# Altium footprint library MEGA.PcbLib: 237 footprints (part 5 of 15)
Each footprint in its own frame and in the unit in brackets; x right, y up, seen from the top. Pads: shape width x height; smd on the part's side, far side on the other; paste and mask are expansions set on the pad; w line width, h text height; cw(c..) or ccw(c..) is an arc to the next point about the centre after c.
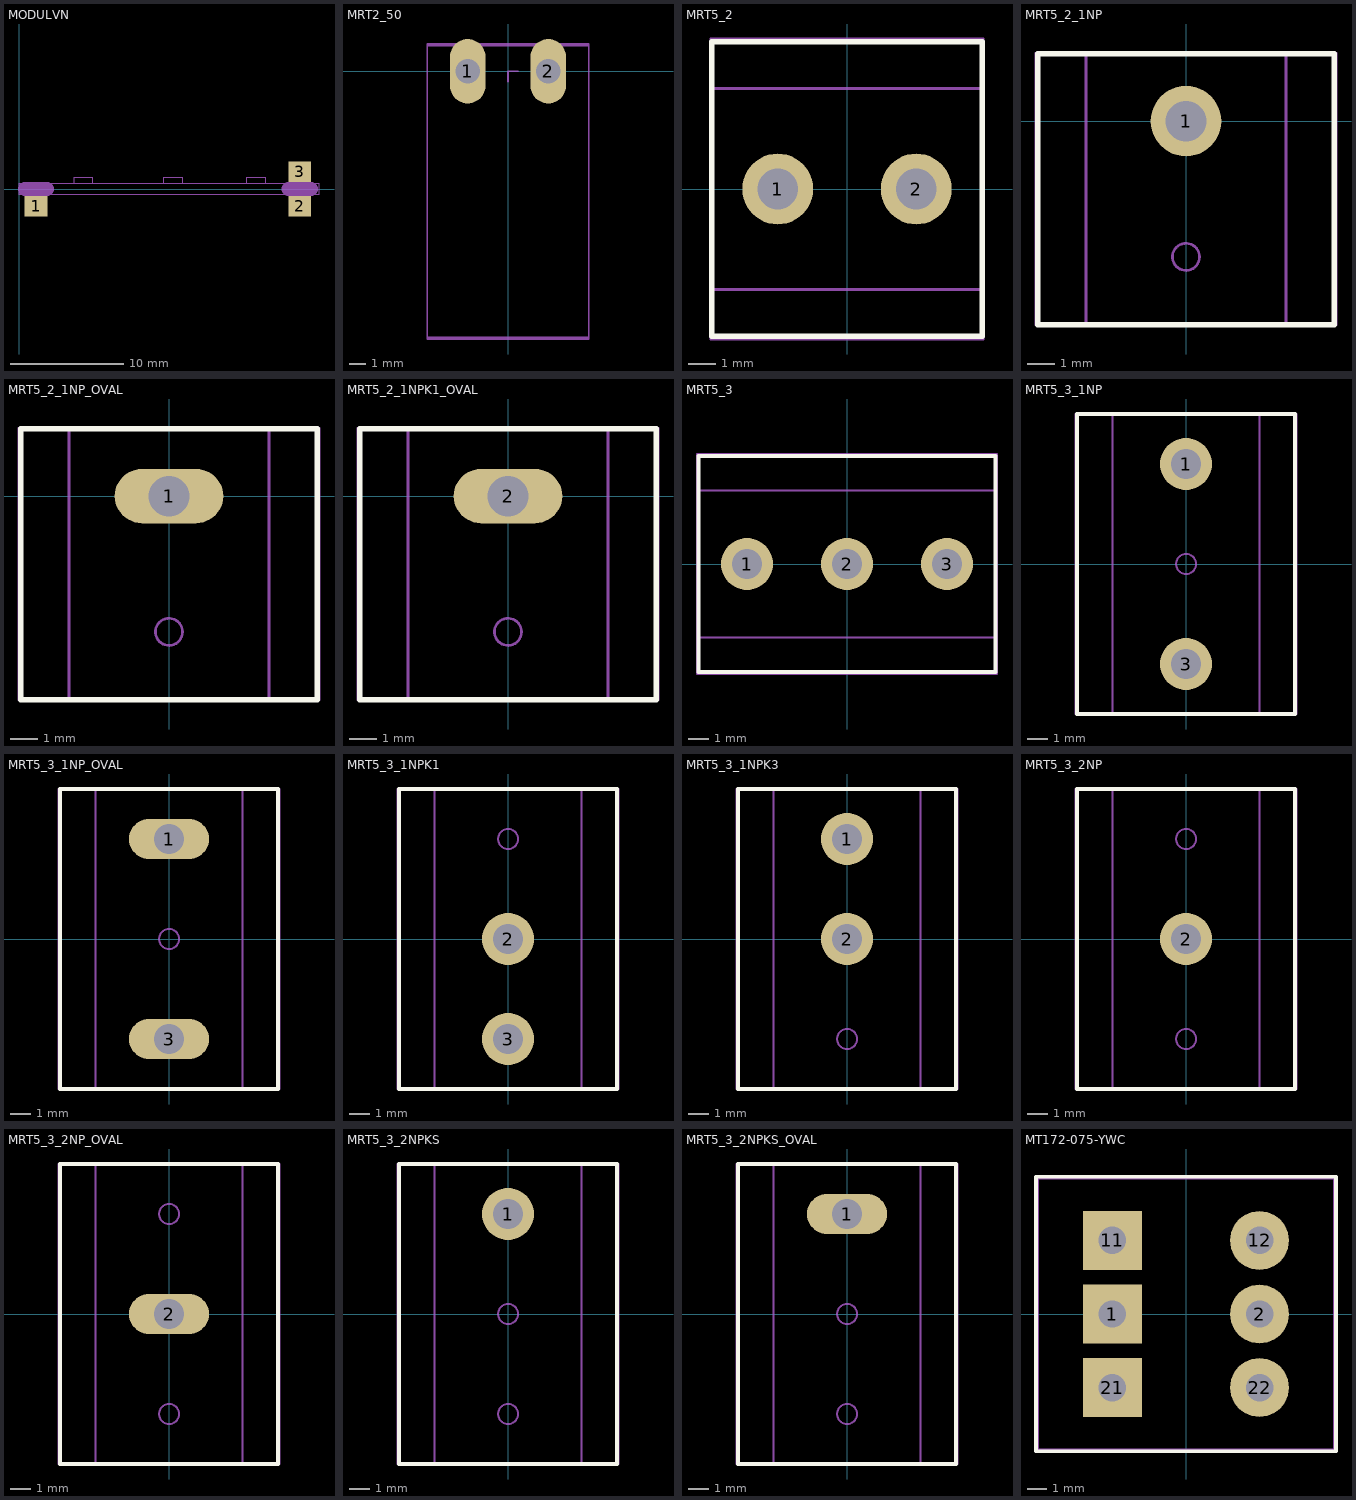
[diagram p4: the footprints below, top view; thin cyan lines are the x and y axes]

## MODULVN [mm]
pads (3):
  rect 2x1.8 smd mask+0.05: 1(1.5,-1.5) 2(24.7,-1.5) 3(24.7,1.5)
Top Solder:
  lines w1.4: 0.5,0 2.5,0 ; 23.7,0 25.7,0
Mechanical 15:
  lines w0.1: 0,-0.5 26.4,-0.5 26.4,0.5 0,0.5 0,-0.5 ; 4.8,0.5 6.5,0.5 6.5,1 4.8,1 4.8,0.5 ; 12.7,0.5 14.4,0.5 14.4,1 12.7,1 12.7,0.5 ; 20,0.5 21.7,0.5 21.7,1 20,1 20,0.5
Mechanical 16:
  lines w1.2: 0.5,0 2.5,0 ; 23.7,0 25.7,0

## MRT2_50 [mm]
pads (2):
  oval 2.2x4 hole 1.5 mask+0.2: 1(-2.5,0) 2(2.5,0)
Mechanical 15:
  circle w0.1: c-2.5,0 r0.75
  circle w0.1: c2.5,0 r0.75
  lines w0.1: -5,-16.5 5,-16.5 5,1.6 -5,1.6 -5,-16.5
Mechanical 16:
  circle w0.1: c-2.5,0 r0.75
  circle w0.1: c2.5,0 r0.75
Mechanical 19:
  lines w0.1: 0,-0.635 0,0 0.635,0
Mechanical 20:
  lines w0.1: -5,-16.6 5,-16.6 5,1.7 -5,1.7 -5,-16.6

## MRT5_2 [mm]
pads (2):
  round 2.6 hole 1.5 mask+0.1: 1(-2.54,0) 2(2.54,0)
Top Overlay:
  lines w0.2: -4.953,-5.397 4.953,-5.397 4.953,5.397 -4.953,5.397 -4.953,-5.397
Mechanical 15:
  circle w0.1: c-2.54,0 r0.65
  circle w0.1: c2.54,0 r0.65
  lines w0.1: -5,-5.5 -5,5.5 5,5.5 5,-5.5 -5,-5.5
Mechanical 16:
  circle w0.1: c-2.54,0 r0.65
  circle w0.1: c2.54,0 r0.65
Multi-Layer:
  text "Value" at -1.235,-1.504 h0.75
Mechanical 19:
  lines w0.1: -5,-3.683 5,-3.683 ; -5,3.683 5,3.683
Mechanical 20:
  lines w0.1: -4.953,-5.461 4.953,-5.461 4.953,5.461 -4.953,5.461 -4.953,-5.461

## MRT5_2_1NP [mm]
pads (1):
  round 2.6 hole 1.5 mask+0.05: 1(0,0)
Top Overlay:
  lines w0.2: -5.461,-7.493 5.461,-7.493 5.461,2.476 -5.461,2.476 -5.461,-7.493
Mechanical 15:
  circle w0.1: c0,0 r0.65
  lines w0.1: -5.524,-7.5 5.524,-7.5 5.524,2.5 -5.524,2.5 -5.524,-7.5
Mechanical 16:
  circle w0.1: c0,0 r0.65
Mechanical 19:
  circle w0.1: c0,-5 r0.5
  lines w0.1: -3.683,-7.5 -3.683,2.5 ; 3.683,-7.5 3.683,2.5
Mechanical 20:
  lines w0.1: -5.461,-7.493 5.461,-7.493 5.461,2.476 -5.461,2.476 -5.461,-7.493

## MRT5_2_1NP_OVAL [mm]
pads (1):
  oval 4x2 hole 1.5 mask+0.05: 1(0,0)
Top Overlay:
  lines w0.2: -5.461,-7.493 5.461,-7.493 5.461,2.476 -5.461,2.476 -5.461,-7.493
Mechanical 15:
  circle w0.1: c0,0 r0.65
  lines w0.1: -5.524,-7.5 5.524,-7.5 5.524,2.5 -5.524,2.5 -5.524,-7.5
Mechanical 16:
  circle w0.1: c0,0 r0.65
Multi-Layer:
  text "Value" at -0.981,-3.75 h0.75
Mechanical 19:
  circle w0.1: c0,-5 r0.5
  lines w0.1: -3.683,-7.5 -3.683,2.5 ; 3.683,-7.5 3.683,2.5
Mechanical 20:
  lines w0.1: -5.461,-7.493 5.461,-7.493 5.461,2.476 -5.461,2.476 -5.461,-7.493

## MRT5_2_1NPK1_OVAL [mm]
pads (1):
  oval 4x2 hole 1.5 mask+0.05: 2(0,0)
Top Overlay:
  lines w0.2: -5.461,-7.493 5.461,-7.493 5.461,2.476 -5.461,2.476 -5.461,-7.493
Mechanical 15:
  circle w0.1: c0,0 r0.65
  lines w0.1: -5.524,-7.5 5.524,-7.5 5.524,2.5 -5.524,2.5 -5.524,-7.5
Mechanical 16:
  circle w0.1: c0,0 r0.65
Multi-Layer:
  text "Value" at -0.981,-3.75 h0.75
Mechanical 19:
  circle w0.1: c0,-5 r0.5
  lines w0.1: -3.683,-7.5 -3.683,2.5 ; 3.683,-7.5 3.683,2.5
Mechanical 20:
  lines w0.1: -5.461,-7.493 5.461,-7.493 5.461,2.476 -5.461,2.476 -5.461,-7.493

## MRT5_3 [mm]
pads (3):
  round 2.6 hole 1.5 mask+0.1: 1(-5,0) 2(0,0) 3(5,0)
Top Overlay:
  lines w0.2: -7.429,-5.397 7.429,-5.397 7.429,5.397 -7.429,5.397 -7.429,-5.397
Mechanical 15:
  circle w0.1: c-5,0 r0.65
  circle w0.1: c0,0 r0.65
  circle w0.1: c5,0 r0.65
  lines w0.1: -7.5,-5.5 -7.5,5.5 7.5,5.5 7.5,-5.5 -7.5,-5.5
Mechanical 16:
  circle w0.1: c-5,0 r0.65
  circle w0.1: c0,0 r0.65
  circle w0.1: c5,0 r0.65
Mechanical 19:
  lines w0.1: -7.5,-3.683 7.5,-3.683 ; -7.5,3.683 7.5,3.683
Mechanical 20:
  lines w0.1: -7.4,-5.4 7.4,-5.4 7.4,5.4 -7.4,5.4 -7.4,-5.4

## MRT5_3_1NP [mm]
pads (2):
  round 2.6 hole 1.5 mask+0.05: 1(0,5) 3(0,-5)
Top Overlay:
  lines w0.2: -5.461,-7.493 5.461,-7.493 5.461,7.493 -5.461,7.493 -5.461,-7.493
Mechanical 15:
  circle w0.1: c0,5 r0.65
  circle w0.1: c0,-5 r0.65
  lines w0.1: -5.524,-7.5 5.524,-7.5 5.524,7.5 -5.524,7.5 -5.524,-7.5
Mechanical 16:
  circle w0.1: c0,-5 r0.65
  circle w0.1: c0,5 r0.65
Mechanical 19:
  circle w0.1: c0,0 r0.5
  lines w0.1: -3.683,-7.5 -3.683,7.5 ; 3.683,-7.5 3.683,7.5
Mechanical 20:
  lines w0.1: -5.461,-7.493 5.461,-7.493 5.461,7.493 -5.461,7.493 -5.461,-7.493

## MRT5_3_1NP_OVAL [mm]
pads (2):
  oval 4x2 hole 1.5 mask+0.05: 1(0,5) 3(0,-5)
Top Overlay:
  lines w0.2: -5.461,-7.493 5.461,-7.493 5.461,7.493 -5.461,7.493 -5.461,-7.493
Mechanical 15:
  circle w0.1: c0,5 r0.65
  circle w0.1: c0,-5 r0.65
  lines w0.1: -5.524,-7.5 5.524,-7.5 5.524,7.5 -5.524,7.5 -5.524,-7.5
Mechanical 16:
  circle w0.1: c0,-5 r0.65
  circle w0.1: c0,5 r0.65
Mechanical 19:
  circle w0.1: c0,0 r0.5
  lines w0.1: -3.683,-7.5 -3.683,7.5 ; 3.683,-7.5 3.683,7.5
Mechanical 20:
  lines w0.1: -5.461,-7.493 5.461,-7.493 5.461,7.493 -5.461,7.493 -5.461,-7.493

## MRT5_3_1NPK1 [mm]
pads (2):
  round 2.6 hole 1.5 mask+0.05: 2(0,0) 3(0,-5)
Top Overlay:
  lines w0.2: -5.461,-7.493 5.461,-7.493 5.461,7.493 -5.461,7.493 -5.461,-7.493
Mechanical 15:
  circle w0.1: c0,0 r0.65
  circle w0.1: c0,-5 r0.65
  lines w0.1: -5.524,-7.5 5.524,-7.5 5.524,7.5 -5.524,7.5 -5.524,-7.5
Mechanical 16:
  circle w0.1: c0,-5 r0.65
  circle w0.1: c0,0 r0.65
Multi-Layer:
  text "Value" at -0.981,1.25 h0.75
Mechanical 19:
  circle w0.1: c0,5 r0.5
  lines w0.1: -3.683,-7.5 -3.683,7.5 ; 3.683,-7.5 3.683,7.5
Mechanical 20:
  lines w0.1: -5.461,-7.493 5.461,-7.493 5.461,7.493 -5.461,7.493 -5.461,-7.493

## MRT5_3_1NPK3 [mm]
pads (2):
  round 2.6 hole 1.5 mask+0.05: 1(0,5) 2(0,0)
Top Overlay:
  lines w0.2: -5.461,-7.493 5.461,-7.493 5.461,7.493 -5.461,7.493 -5.461,-7.493
Mechanical 15:
  circle w0.1: c0,5 r0.65
  circle w0.1: c0,0 r0.65
  lines w0.1: -5.524,-7.5 5.524,-7.5 5.524,7.5 -5.524,7.5 -5.524,-7.5
Mechanical 16:
  circle w0.1: c0,0 r0.65
  circle w0.1: c0,5 r0.65
Mechanical 19:
  circle w0.1: c0,-5 r0.5
  lines w0.1: -3.683,-7.5 -3.683,7.5 ; 3.683,-7.5 3.683,7.5
Mechanical 20:
  lines w0.1: -5.461,-7.493 5.461,-7.493 5.461,7.493 -5.461,7.493 -5.461,-7.493

## MRT5_3_2NP [mm]
pads (1):
  round 2.6 hole 1.5 mask+0.05: 2(0,0)
Top Overlay:
  lines w0.2: -5.461,-7.493 5.461,-7.493 5.461,7.493 -5.461,7.493 -5.461,-7.493
Mechanical 15:
  circle w0.1: c0,0 r0.65
  lines w0.1: -5.524,-7.5 5.524,-7.5 5.524,7.5 -5.524,7.5 -5.524,-7.5
Mechanical 16:
  circle w0.1: c0,0 r0.65
Mechanical 19:
  circle w0.1: c0,5 r0.5
  circle w0.1: c0,-5 r0.5
  lines w0.1: -3.683,-7.5 -3.683,7.5 ; 3.683,-7.5 3.683,7.5
Mechanical 20:
  lines w0.1: -5.461,-7.493 5.461,-7.493 5.461,7.493 -5.461,7.493 -5.461,-7.493

## MRT5_3_2NP_OVAL [mm]
pads (1):
  oval 4x2 hole 1.5 mask+0.05: 2(0,0)
Top Overlay:
  lines w0.2: -5.461,-7.493 5.461,-7.493 5.461,7.493 -5.461,7.493 -5.461,-7.493
Mechanical 15:
  circle w0.1: c0,0 r0.65
  lines w0.1: -5.524,-7.5 5.524,-7.5 5.524,7.5 -5.524,7.5 -5.524,-7.5
Mechanical 16:
  circle w0.1: c0,0 r0.65
Mechanical 19:
  circle w0.1: c0,5 r0.5
  circle w0.1: c0,-5 r0.5
  lines w0.1: -3.683,-7.5 -3.683,7.5 ; 3.683,-7.5 3.683,7.5
Mechanical 20:
  lines w0.1: -5.461,-7.493 5.461,-7.493 5.461,7.493 -5.461,7.493 -5.461,-7.493

## MRT5_3_2NPKS [mm]
pads (1):
  round 2.6 hole 1.5 mask+0.05: 1(0,5)
Top Overlay:
  lines w0.2: -5.461,-7.493 5.461,-7.493 5.461,7.493 -5.461,7.493 -5.461,-7.493
Mechanical 15:
  circle w0.1: c0,5 r0.65
  lines w0.1: -5.524,-7.5 5.524,-7.5 5.524,7.5 -5.524,7.5 -5.524,-7.5
Mechanical 16:
  circle w0.1: c0,5 r0.65
Mechanical 19:
  circle w0.1: c0,0 r0.5
  circle w0.1: c0,-5 r0.5
  lines w0.1: -3.683,-7.5 -3.683,7.5 ; 3.683,-7.5 3.683,7.5
Mechanical 20:
  lines w0.1: -5.461,-7.493 5.461,-7.493 5.461,7.493 -5.461,7.493 -5.461,-7.493

## MRT5_3_2NPKS_OVAL [mm]
pads (1):
  oval 4x2 hole 1.5 mask+0.05: 1(0,5)
Top Overlay:
  lines w0.2: -5.461,-7.493 5.461,-7.493 5.461,7.493 -5.461,7.493 -5.461,-7.493
Mechanical 15:
  circle w0.1: c0,5 r0.65
  lines w0.1: -5.524,-7.5 5.524,-7.5 5.524,7.5 -5.524,7.5 -5.524,-7.5
Mechanical 16:
  circle w0.1: c0,5 r0.65
Mechanical 19:
  circle w0.1: c0,0 r0.5
  circle w0.1: c0,-5 r0.5
  lines w0.1: -3.683,-7.5 -3.683,7.5 ; 3.683,-7.5 3.683,7.5
Mechanical 20:
  lines w0.1: -5.461,-7.493 5.461,-7.493 5.461,7.493 -5.461,7.493 -5.461,-7.493

## MT172-075-YWC [mm]
height 9.5
pads (6):
  rect 3x3 hole 1.4 mask+0.1: 1(-3.75,0) 11(-3.75,3.75) 21(-3.75,-3.75)
  round 3 hole 1.4 mask+0.05: 2(3.75,0) 12(3.75,3.75) 22(3.75,-3.75)
Top Overlay:
  lines w0.2: -7.65,-7 7.65,-7 7.65,7 -7.65,7 -7.65,-7
Mechanical 15:
  lines w0.1: -7.55,-6.9 7.55,-6.9 7.55,6.9 -7.55,6.9 -7.55,-6.9
Mechanical 20:
  lines w0.1: -7.65,-7 7.65,-7 7.65,7 -7.65,7 -7.65,-7